# Altium schematic symbol library STM8S103_FM1702.SchLib: 3 symbols
Pins are listed as number, name and electrical type; pins without a type are passive.

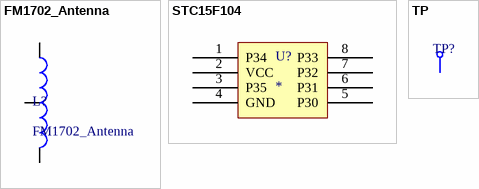
[diagram p0: symbols FM1702_Antenna to TP]

## FM1702_Antenna
designator L?
footprint FM1702_Antenna
pins: 1, 2, 3

## STC15F104
designator U?
footprint SOP-8M (SOIC, 8-Leads, Body 4.9x3.9mm, Pitch 1.27mm, IPC Low Density)
pins: 1 P34, 2 VCC, 3 P35, 4 GND, 5 P30, 6 P31, 7 P32, 8 P33

## TP
designator TP?  (value not drawn)
footprint TP
pins: 1